# Altium schematic symbol library Conn,Nano-Fit,8Pos,SMD.Schlib: 1 symbol
Pins are listed as number, name and electrical type; pins without a type are passive.

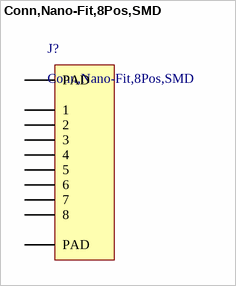
[diagram p0: symbol Conn,Nano-Fit,8Pos,SMD]

## Conn,Nano-Fit,8Pos,SMD
designator J?
Connector Header Surface Mount, Right Angle 8 position 0.098" (2.50mm)
pins: 0 PAD, 0 PAD, 1, 2, 3, 4, 5, 6, 7, 8